# EAGLE library part ICE40LP8K-CM81 (library ic-mhm)
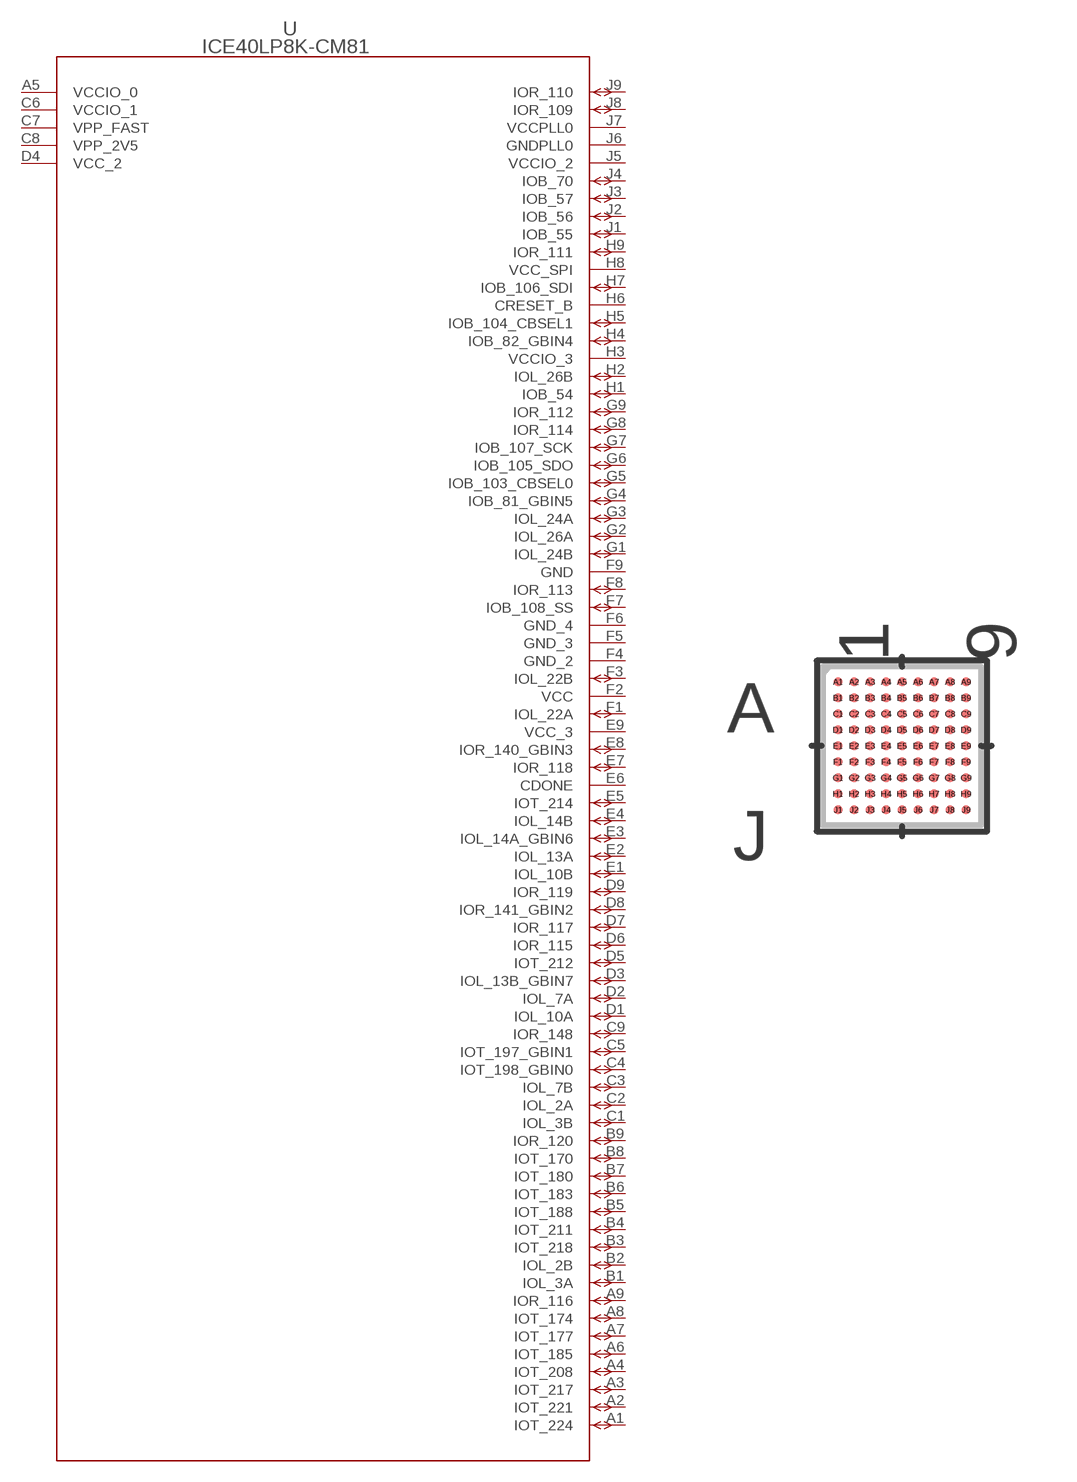
[diagram p0: symbol with the pads of UCBGA81_LAT; footprint UCBGA81_LAT]

Designator prefix U

## ICE40LP8K-CM81 (COPYRIGHT: Copyright (C) 2021 Ultra Librarian. All rights reserved.; DIGI-KEY_PART_NUMBER_1: 220-1858-ND; MANUFACTURER_PART_NUMBER: ICE40LP8K-CM81; MFR_NAME: Lattice)  [UCBGA81_LAT]
A1  IOT_224
A2  IOT_221
A3  IOT_217
A4  IOT_208
A5  VCCIO_0  pwr
A6  IOT_185
A7  IOT_177
A8  IOT_174
A9  IOR_116
B1  IOL_3A
B2  IOL_2B
B3  IOT_218
B4  IOT_211
B5  IOT_188
B6  IOT_183
B7  IOT_180
B8  IOT_170
B9  IOR_120
C1  IOL_3B
C2  IOL_2A
C3  IOL_7B
C4  IOT_198_GBIN0
C5  IOT_197_GBIN1
C6  VCCIO_1  pwr
C7  VPP_FAST  pwr
C8  VPP_2V5  pwr
C9  IOR_148
D1  IOL_10A
D2  IOL_7A
D3  IOL_13B_GBIN7
D4  VCC_2  pwr
D5  IOT_212
D6  IOR_115
D7  IOR_117
D8  IOR_141_GBIN2
D9  IOR_119
E1  IOL_10B
E2  IOL_13A
E3  IOL_14A_GBIN6
E4  IOL_14B
E5  IOT_214
E6  CDONE  pas
E7  IOR_118
E8  IOR_140_GBIN3
E9  VCC_3  pwr
F1  IOL_22A
F2  VCC  pwr
F3  IOL_22B
F4  GND_2  pwr
F5  GND_3  pwr
F6  GND_4  pwr
F7  IOB_108_SS
F8  IOR_113
F9  GND  pwr
G1  IOL_24B
G2  IOL_26A
G3  IOL_24A
G4  IOB_81_GBIN5
G5  IOB_103_CBSEL0
G6  IOB_105_SDO
G7  IOB_107_SCK
G8  IOR_114
G9  IOR_112
H1  IOB_54
H2  IOL_26B
H3  VCCIO_3  pwr
H4  IOB_82_GBIN4
H5  IOB_104_CBSEL1
H6  CRESET_B  pas
H7  IOB_106_SDI
H8  VCC_SPI  pwr
H9  IOR_111
J1  IOB_55
J2  IOB_56
J3  IOB_57
J4  IOB_70
J5  VCCIO_2  pwr
J6  GNDPLL0  pwr
J7  VCCPLL0  pwr
J8  IOR_109
J9  IOR_110

## Footprint UCBGA81_LAT (pad centres in mm)
smd 0.229 x 0.229: A1 -1.6,1.6; A2 -1.2,1.6; A3 -0.8,1.6; A4 -0.4,1.6; A5 0,1.6; A6 0.4,1.6; A7 0.8,1.6; A8 1.2,1.6; A9 1.6,1.6; B1 -1.6,1.2; B2 -1.2,1.2; B3 -0.8,1.2; B4 -0.4,1.2; B5 0,1.2; B6 0.4,1.2; B7 0.8,1.2; B8 1.2,1.2; B9 1.6,1.2; C1 -1.6,0.8; C2 -1.2,0.8; C3 -0.8,0.8; C4 -0.4,0.8; C5 0,0.8; C6 0.4,0.8; C7 0.8,0.8; C8 1.2,0.8; C9 1.6,0.8; D1 -1.6,0.4; D2 -1.2,0.4; D3 -0.8,0.4; D4 -0.4,0.4; D5 0,0.4; D6 0.4,0.4; D7 0.8,0.4; D8 1.2,0.4; D9 1.6,0.4; E1 -1.6,0; E2 -1.2,0; E3 -0.8,0; E4 -0.4,0; E5 0,0; E6 0.4,0; E7 0.8,0; E8 1.2,0; E9 1.6,0; F1 -1.6,-0.4; F2 -1.2,-0.4; F3 -0.8,-0.4; F4 -0.4,-0.4; F5 0,-0.4; F6 0.4,-0.4; F7 0.8,-0.4; F8 1.2,-0.4; F9 1.6,-0.4; G1 -1.6,-0.8; G2 -1.2,-0.8; G3 -0.8,-0.8; G4 -0.4,-0.8; G5 0,-0.8; G6 0.4,-0.8; G7 0.8,-0.8; G8 1.2,-0.8; G9 1.6,-0.8; H1 -1.6,-1.2; H2 -1.2,-1.2; H3 -0.8,-1.2; H4 -0.4,-1.2; H5 0,-1.2; H6 0.4,-1.2; H7 0.8,-1.2; H8 1.2,-1.2; H9 1.6,-1.2; J1 -1.6,-1.6; J2 -1.2,-1.6; J3 -0.8,-1.6; J4 -0.4,-1.6; J5 0,-1.6; J6 0.4,-1.6; J7 0.8,-1.6; J8 1.2,-1.6; J9 1.6,-1.6